# Altium footprint library SSM6N67NU,LF.PcbLib: 3 footprints
Each footprint in its own frame and in the unit in brackets; x right, y up, seen from the top. Pads: shape width x height; smd on the part's side, far side on the other; paste and mask are expansions set on the pad; w line width, h text height; cw(c..) or ccw(c..) is an arc to the next point about the centre after c.
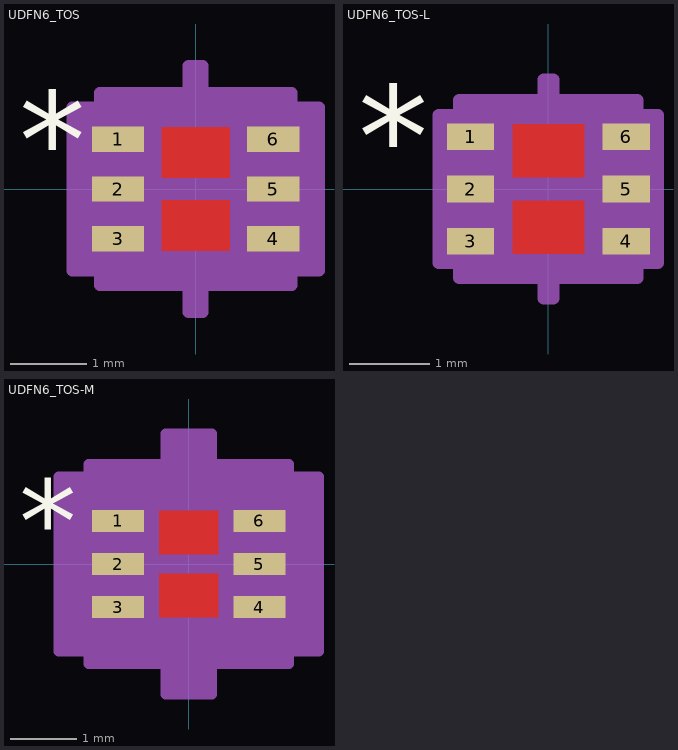
[diagram p0: the footprints below, top view; thin cyan lines are the x and y axes]

## UDFN6_TOS [mil]
pads (6):
  rect 27x13 smd paste+0 mask+0: 1(-40,25.59) 2(-40,0) 3(-40,-25.59) 4(40,-25.59) 5(40,0) 6(40,25.59)
Top Layer:
  region: -17.5,-31.7 -17.5,-5.7 17.5,-5.7 17.5,-31.7
  region: -17.5,5.7 -17.5,31.7 17.5,31.7 17.5,5.7
Top Overlay:
  text "*" at -91,0.59 h50
Top Paste:
  region: -17.5,-31.7 -17.5,-5.7 17.5,-5.7 17.5,-31.7
  region: -17.5,5.7 -17.5,31.7 17.5,31.7 17.5,5.7
Top Solder:
  region: -17.5,-31.7 -17.5,-5.7 17.5,-5.7 17.5,-31.7
  region: -17.5,5.7 -17.5,31.7 17.5,31.7 17.5,5.7
Mechanical 13:
  lines w1: -39.5,-10.5 10.5,39.5 ; -41.5,-33.09 -39.5,-33.09 -39.5,-18.09 -41.5,-18.09 -41.5,-33.09 ; -41.5,-7.5 -39.5,-7.5 -39.5,7.5 -41.5,7.5 -41.5,-7.5 ; -41.5,18.09 -39.5,18.09 -39.5,33.09 -41.5,33.09 -41.5,18.09 ; -39.5,-39.5 -39.5,39.5 39.5,39.5 39.5,-39.5 -39.5,-39.5 ; 39.5,-33.09 41.5,-33.09 41.5,-18.09 39.5,-18.09 39.5,-33.09 ; 39.5,-7.5 41.5,-7.5 41.5,7.5 39.5,7.5 39.5,-7.5 ; 39.5,18.09 41.5,18.09 41.5,33.09 39.5,33.09 39.5,18.09
  text "*" at -14,0.59 h50
Mechanical 15:
  region: -3.7,-49.5 -49.5,-49.5 -49.5,-42.09 -63.5,-42.09 -63.5,42.09 -49.5,42.09 -49.5,49.5 -3.7,49.5 -3.7,63.5 3.7,63.5 3.7,49.5 49.5,49.5 49.5,42.09 63.5,42.09 63.5,-42.09 49.5,-42.09 49.5,-49.5 3.7,-49.5 3.7,-63.5 -3.7,-63.5
  lines w6: -63.5,-42.09 -63.5,42.09 -49.5,42.09 -49.5,49.5 -3.7,49.5 -3.7,63.5 3.7,63.5 3.7,49.5 49.5,49.5 49.5,42.09 63.5,42.09 63.5,-42.09 49.5,-42.09 49.5,-49.5 3.7,-49.5 3.7,-63.5 -3.7,-63.5 -3.7,-49.5 -49.5,-49.5 -49.5,-42.09 -63.5,-42.09
3D body "UDFN6_TOS.step": height 32.09, standoff 0, extent -41.5,-39.49 41.5,39.49

## UDFN6_TOS-L [mil]
pads (6):
  rect 23x13 smd paste+0 mask+0: 1(-38,25.59) 2(-38,0) 3(-38,-25.59) 4(38,-25.59) 5(38,0) 6(38,25.59)
Top Layer:
  region: -17.5,-31.7 -17.5,-5.7 17.5,-5.7 17.5,-31.7
  region: -17.5,5.7 -17.5,31.7 17.5,31.7 17.5,5.7
Top Overlay:
  text "*" at -93,0.59 h50
Top Paste:
  region: -17.5,-31.7 -17.5,-5.7 17.5,-5.7 17.5,-31.7
  region: -17.5,5.7 -17.5,31.7 17.5,31.7 17.5,5.7
Top Solder:
  region: -17.5,-31.7 -17.5,-5.7 17.5,-5.7 17.5,-31.7
  region: -17.5,5.7 -17.5,31.7 17.5,31.7 17.5,5.7
Mechanical 13:
  lines w1: -39.5,-10.5 10.5,39.5 ; -41.5,-33.09 -39.5,-33.09 -39.5,-18.09 -41.5,-18.09 -41.5,-33.09 ; -41.5,-7.5 -39.5,-7.5 -39.5,7.5 -41.5,7.5 -41.5,-7.5 ; -41.5,18.09 -39.5,18.09 -39.5,33.09 -41.5,33.09 -41.5,18.09 ; -39.5,-39.5 -39.5,39.5 39.5,39.5 39.5,-39.5 -39.5,-39.5 ; 39.5,-33.09 41.5,-33.09 41.5,-18.09 39.5,-18.09 39.5,-33.09 ; 39.5,-7.5 41.5,-7.5 41.5,7.5 39.5,7.5 39.5,-7.5 ; 39.5,18.09 41.5,18.09 41.5,33.09 39.5,33.09 39.5,18.09
  text "*" at -8,0.59 h50
Mechanical 15:
  region: 2.3,-43.5 -43.5,-43.5 -43.5,-36.09 -53.5,-36.09 -53.5,36.09 -43.5,36.09 -43.5,43.5 2.3,43.5 2.3,53.5 -2.3,53.5 -2.3,43.5 43.5,43.5 43.5,36.09 53.5,36.09 53.5,-36.09 43.5,-36.09 43.5,-43.5 -2.3,-43.5 -2.3,-53.5 2.3,-53.5
  lines w6: -53.5,-36.09 -53.5,36.09 -43.5,36.09 -43.5,43.5 2.3,43.5 2.3,53.5 -2.3,53.5 -2.3,43.5 43.5,43.5 43.5,36.09 53.5,36.09 53.5,-36.09 43.5,-36.09 43.5,-43.5 -2.3,-43.5 -2.3,-53.5 2.3,-53.5 2.3,-43.5 -43.5,-43.5 -43.5,-36.09 -53.5,-36.09
3D body "UDFN6_TOS.step": height 32.09, standoff 0, extent -43.91,-38.97 39.08,40.01
3D body "UDFN6_TOS.step": height 32.09, standoff 0, extent -41.5,-39.49 41.5,39.49

## UDFN6_TOS-M [mil]
pads (6):
  rect 31x13 smd paste+0 mask+0: 1(-42,25.59) 2(-42,0) 3(-42,-25.59) 4(42,-25.59) 5(42,0) 6(42,25.59)
Top Layer:
  region: -17.5,-31.7 -17.5,-5.7 17.5,-5.7 17.5,-31.7
  region: -17.5,5.7 -17.5,31.7 17.5,31.7 17.5,5.7
Top Overlay:
  text "*" at -101,0.59 h50
Top Paste:
  region: -17.5,-31.7 -17.5,-5.7 17.5,-5.7 17.5,-31.7
  region: -17.5,5.7 -17.5,31.7 17.5,31.7 17.5,5.7
Top Solder:
  region: -17.5,-31.7 -17.5,-5.7 17.5,-5.7 17.5,-31.7
  region: -17.5,5.7 -17.5,31.7 17.5,31.7 17.5,5.7
Mechanical 13:
  lines w1: -39.5,-10.5 10.5,39.5 ; -41.5,-33.09 -39.5,-33.09 -39.5,-18.09 -41.5,-18.09 -41.5,-33.09 ; -41.5,-7.5 -39.5,-7.5 -39.5,7.5 -41.5,7.5 -41.5,-7.5 ; -41.5,18.09 -39.5,18.09 -39.5,33.09 -41.5,33.09 -41.5,18.09 ; -39.5,-39.5 -39.5,39.5 39.5,39.5 39.5,-39.5 -39.5,-39.5 ; 39.5,-33.09 41.5,-33.09 41.5,-18.09 39.5,-18.09 39.5,-33.09 ; 39.5,-7.5 41.5,-7.5 41.5,7.5 39.5,7.5 39.5,-7.5 ; 39.5,18.09 41.5,18.09 41.5,33.09 39.5,33.09 39.5,18.09
  text "*" at -8,0.59 h50
Mechanical 15:
  region: -13.7,-59.5 -59.5,-59.5 -59.5,-52.09 -77.5,-52.09 -77.5,52.09 -59.5,52.09 -59.5,59.5 -13.7,59.5 -13.7,77.5 13.7,77.5 13.7,59.5 59.5,59.5 59.5,52.09 77.5,52.09 77.5,-52.09 59.5,-52.09 59.5,-59.5 13.7,-59.5 13.7,-77.5 -13.7,-77.5
  lines w6: -77.5,-52.09 -77.5,52.09 -59.5,52.09 -59.5,59.5 -13.7,59.5 -13.7,77.5 13.7,77.5 13.7,59.5 59.5,59.5 59.5,52.09 77.5,52.09 77.5,-52.09 59.5,-52.09 59.5,-59.5 13.7,-59.5 13.7,-77.5 -13.7,-77.5 -13.7,-59.5 -59.5,-59.5 -59.5,-52.09 -77.5,-52.09
3D body "UDFN6_TOS.step": height 32.09, standoff 0, extent -41.5,-39.49 41.5,39.49